# EAGLE library part SN75240 (library texas)
USB PORT TRANSIENT SUPPRESSOR
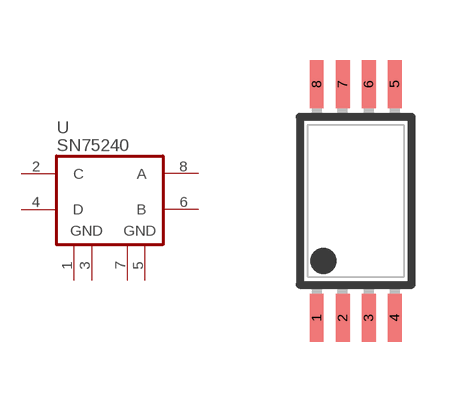
[diagram p86: symbol with the pads of TSSOP8; footprint TSSOP8]

Designator prefix U

## SN75240PW  [TSSOP8]
1  GND  pwr
2  C  pas
3  GND  pwr
4  D  pas
5  GND  pwr
6  B  pas
7  GND  pwr
8  A  pas

## Footprint TSSOP8 (pad centres in mm)
Thin Shrink Small Outline Plastic 8
smd 0.35 x 1.2: 1 -0.975,-2.925; 2 -0.325,-2.925; 3 0.325,-2.925; 4 0.975,-2.925; 5 0.975,2.925; 6 0.325,2.925; 7 -0.325,2.925; 8 -0.975,2.925